# Altium integrated library TI_Logic_Specialty_Logic.IntLib: 2504 symbols (part 72 of 81)
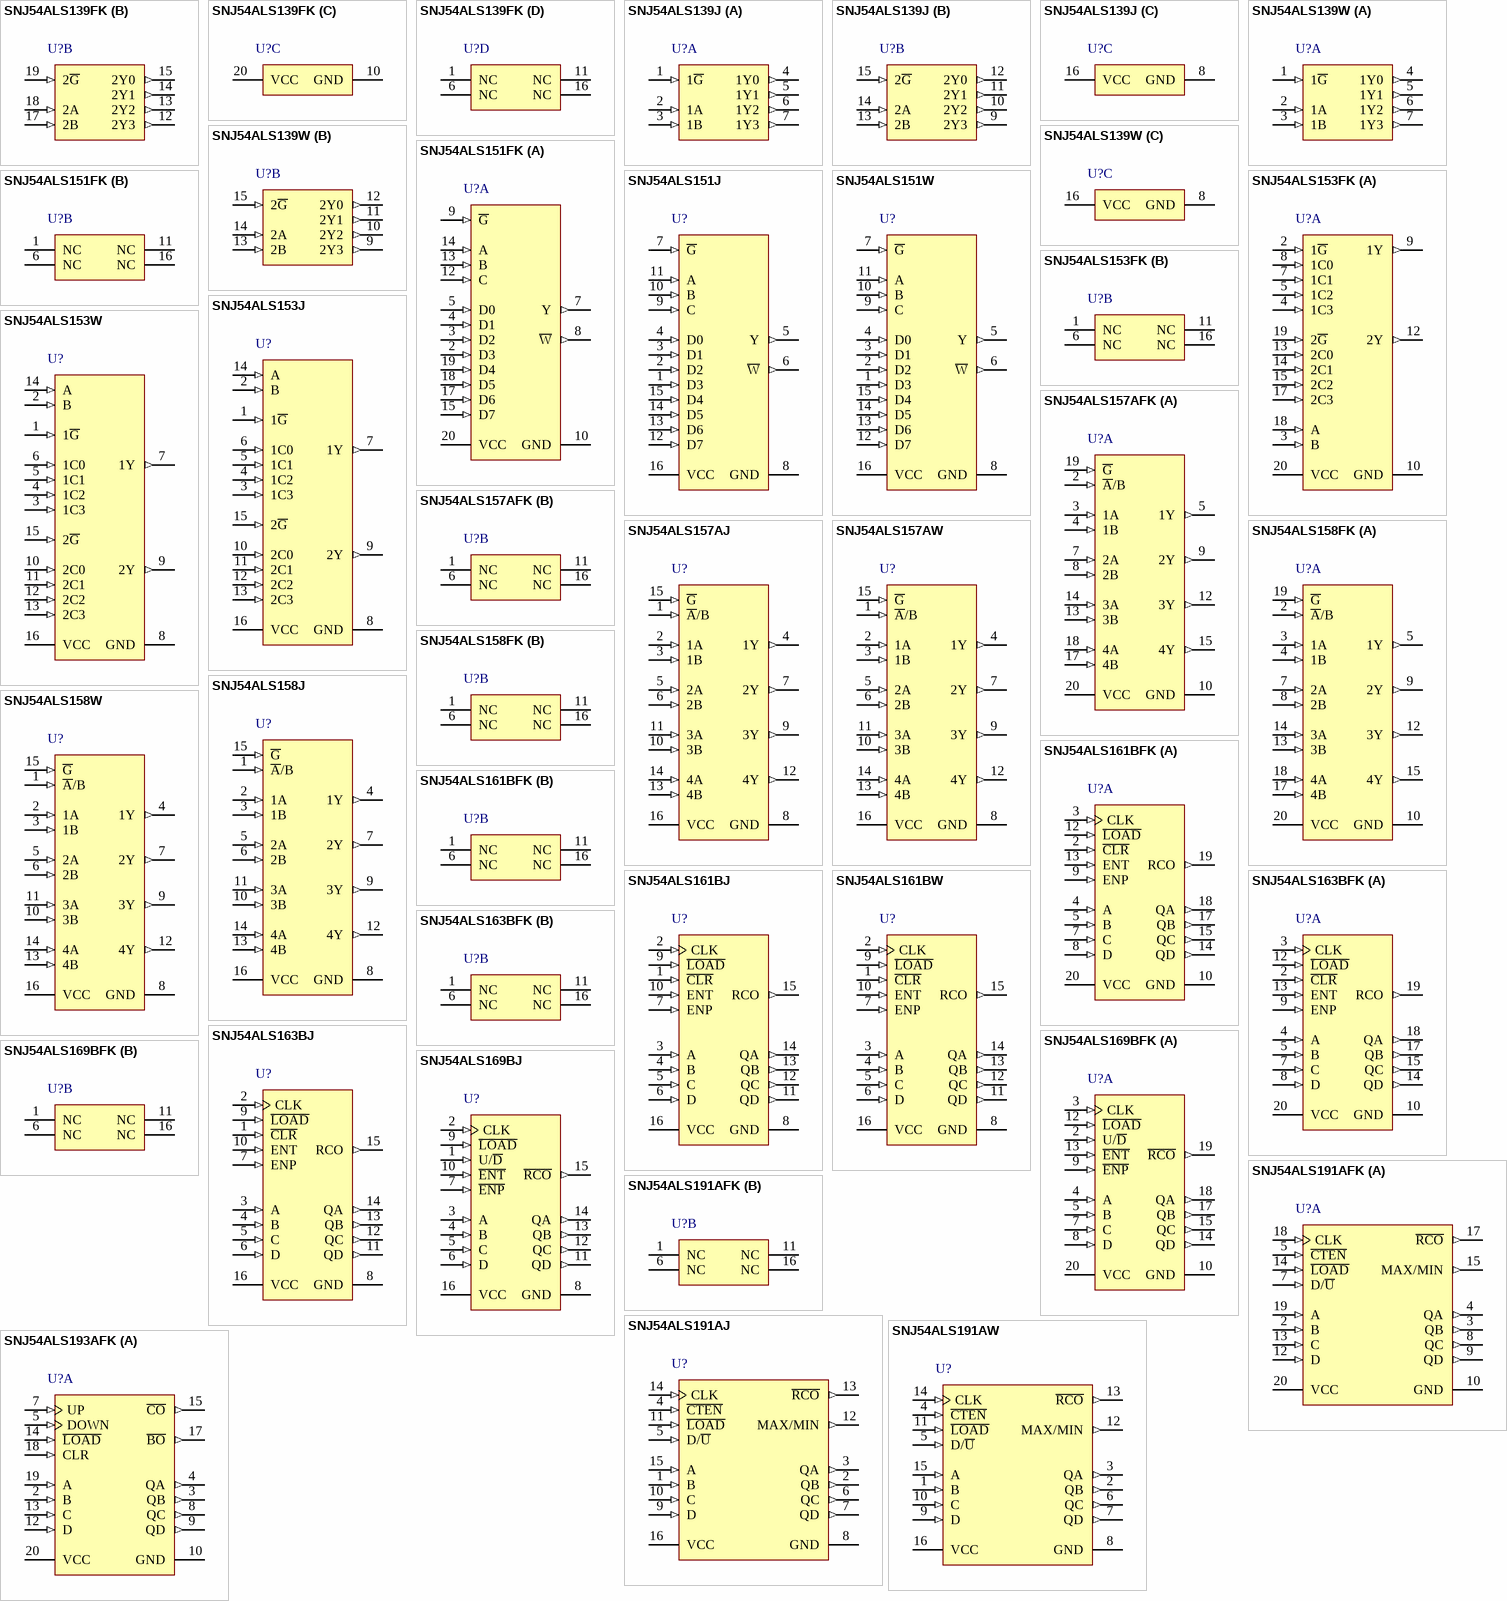
[diagram p175: symbols SNJ54ALS139FK to SNJ54ALS193AFK]

## SNJ54ALS157AJ
designator U?
Quadruple 1-Of-2 Data Selectors/Multiplexers, J0016A, TUBE; Generic Part Number: SN54ALS157A; Manufacturer: Texas Instruments; PartNumber: SNJ54ALS157AJ; VCC(Min)(V): 4.5; VCC(Max)(V): 5.5; Rating: Military; Technology Family: ALS; Schmitt Trigger: No; DatasheetVersion: SDAS081C; PackageReference: J0016A; Operating Temperature Range(C): -55 to 125; ComponentLink1Description: Manufacturer URL; ComponentLink1URL: http://www.ti.com/; ComponentLink2Description: Datasheet; ComponentLink2URL: http://www.ti.com/lit/ds/symlink/sn54als157a.pdf; ComponentLink3Description: Package Specification; ComponentLink3URL: http://www.ti.com/lit/ml/mcer002d/mcer002d.pdf
footprint J0016A (DIP, 16-Leads, Body 21.35x7.2mm, Pitch 2.54mm)
pins: 1 ~{A}/B (in), 2 1A (in), 3 1B (in), 4 1Y (out), 5 2A (in), 6 2B (in), 7 2Y (out), 8 GND (power), 9 3Y (out), 10 3B (in), 11 3A (in), 12 4Y (out), 13 4B (in), 14 4A (in), 15 ~{G} (in), 16 VCC (power)

## SNJ54ALS157AW
designator U?
Quadruple 1-Of-2 Data Selectors/Multiplexers, W0016A, TUBE; Generic Part Number: SN54ALS157A; Manufacturer: Texas Instruments; PartNumber: SNJ54ALS157AW; VCC(Min)(V): 4.5; VCC(Max)(V): 5.5; Rating: Military; Technology Family: ALS; Schmitt Trigger: No; DatasheetVersion: SDAS081C; PackageReference: W0016A; Operating Temperature Range(C): -55 to 125; ComponentLink1Description: Manufacturer URL; ComponentLink1URL: http://www.ti.com/; ComponentLink2Description: Datasheet; ComponentLink2URL: http://www.ti.com/lit/ds/symlink/sn54als157a.pdf; ComponentLink3Description: Package Specification; ComponentLink3URL: http://www.ti.com/lit/ml/mcfp004c/mcfp004c.pdf
footprint W0016A_N (CFP, 16-Leads, Body 10.92x7.24mm, Pitch 1.27mm, IPC Medium Density)
footprint W0016A_M (CFP, 16-Leads, Body 10.92x7.24mm, Pitch 1.27mm, IPC Low Density)
footprint W0016A_L (CFP, 16-Leads, Body 10.92x7.24mm, Pitch 1.27mm, IPC High Density)
pins: 1 ~{A}/B (in), 2 1A (in), 3 1B (in), 4 1Y (out), 5 2A (in), 6 2B (in), 7 2Y (out), 8 GND (power), 9 3Y (out), 10 3B (in), 11 3A (in), 12 4Y (out), 13 4B (in), 14 4A (in), 15 ~{G} (in), 16 VCC (power)

## SNJ54ALS158FK
designator U?
Quadruple 1-Of-2 Data Selectors/Multiplexers, FK0020A, TUBE; Generic Part Number: SN54ALS158; Manufacturer: Texas Instruments; PartNumber: SNJ54ALS158FK; VCC(Min)(V): 4.5; VCC(Max)(V): 5.5; Rating: Military; Technology Family: ALS; Schmitt Trigger: No; DatasheetVersion: SDAS081C; PackageReference: FK0020A; Operating Temperature Range(C): -55 to 125; Code_JEDEC: MS-004; ComponentLink1Description: Manufacturer URL; ComponentLink1URL: http://www.ti.com/; ComponentLink2Description: Datasheet; ComponentLink2URL: http://www.ti.com/lit/ds/symlink/sn54als158.pdf; ComponentLink3Description: Package Specification; ComponentLink3URL: http://www.ti.com/lit/ml/mlcc006d/mlcc006d.pdf
footprint FK0020A_N (LCC, 20-Leads, Body 8.9x8.9mm, Pitch 1.27mm, IPC Medium Density)
footprint FK0020A_M (LCC, 20-Leads, Body 8.9x8.9mm, Pitch 1.27mm, IPC Low Density)
footprint FK0020A_L (LCC, 20-Leads, Body 8.9x8.9mm, Pitch 1.27mm, IPC High Density)
part A pins: 2 ~{A}/B (in), 3 1A (in), 4 1B (in), 5 1Y (out), 7 2A (in), 8 2B (in), 9 2Y (out), 10 GND (power), 12 3Y (out), 13 3B (in), 14 3A (in), 15 4Y (out), 17 4B (in), 18 4A (in), 19 ~{G} (in), 20 VCC (power)
part B pins: 1 NC, 6 NC, 11 NC, 16 NC

## SNJ54ALS158J
designator U?
Quadruple 1-Of-2 Data Selectors/Multiplexers, J0016A, TUBE; Generic Part Number: SN54ALS158; Manufacturer: Texas Instruments; PartNumber: SNJ54ALS158J; VCC(Min)(V): 4.5; VCC(Max)(V): 5.5; Rating: Military; Technology Family: ALS; Schmitt Trigger: No; DatasheetVersion: SDAS081C; PackageReference: J0016A; Operating Temperature Range(C): -55 to 125; ComponentLink1Description: Manufacturer URL; ComponentLink1URL: http://www.ti.com/; ComponentLink2Description: Datasheet; ComponentLink2URL: http://www.ti.com/lit/ds/symlink/sn54als158.pdf; ComponentLink3Description: Package Specification; ComponentLink3URL: http://www.ti.com/lit/ml/mcer002d/mcer002d.pdf
footprint J0016A (DIP, 16-Leads, Body 21.35x7.2mm, Pitch 2.54mm)
pins: 1 ~{A}/B (in), 2 1A (in), 3 1B (in), 4 1Y (out), 5 2A (in), 6 2B (in), 7 2Y (out), 8 GND (power), 9 3Y (out), 10 3B (in), 11 3A (in), 12 4Y (out), 13 4B (in), 14 4A (in), 15 ~{G} (in), 16 VCC (power)

## SNJ54ALS158W
designator U?
Quadruple 1-Of-2 Data Selectors/Multiplexers, W0016A, TUBE; Generic Part Number: SN54ALS158; Manufacturer: Texas Instruments; PartNumber: SNJ54ALS158W; VCC(Min)(V): 4.5; VCC(Max)(V): 5.5; Rating: Military; Technology Family: ALS; Schmitt Trigger: No; DatasheetVersion: SDAS081C; PackageReference: W0016A; Operating Temperature Range(C): -55 to 125; ComponentLink1Description: Manufacturer URL; ComponentLink1URL: http://www.ti.com/; ComponentLink2Description: Datasheet; ComponentLink2URL: http://www.ti.com/lit/ds/symlink/sn54als158.pdf; ComponentLink3Description: Package Specification; ComponentLink3URL: http://www.ti.com/lit/ml/mcfp004c/mcfp004c.pdf
footprint W0016A_N (CFP, 16-Leads, Body 10.92x7.24mm, Pitch 1.27mm, IPC Medium Density)
footprint W0016A_M (CFP, 16-Leads, Body 10.92x7.24mm, Pitch 1.27mm, IPC Low Density)
footprint W0016A_L (CFP, 16-Leads, Body 10.92x7.24mm, Pitch 1.27mm, IPC High Density)
pins: 1 ~{A}/B (in), 2 1A (in), 3 1B (in), 4 1Y (out), 5 2A (in), 6 2B (in), 7 2Y (out), 8 GND (power), 9 3Y (out), 10 3B (in), 11 3A (in), 12 4Y (out), 13 4B (in), 14 4A (in), 15 ~{G} (in), 16 VCC (power)

## SNJ54ALS161BFK
designator U?
Synchronous 4-Bit Binary Counters, FK0020A, TUBE; Generic Part Number: SN54ALS161B; Manufacturer: Texas Instruments; PartNumber: SNJ54ALS161BFK; VCC(Min)(V): 4.5; VCC(Max)(V): 5.5; Inputs: 1; ICC @ Nom Voltage(Max)(mA): 21; Bits(#): 4; F @ Nom Voltage(Max)(Mhz): 75; Rating: Military; Technology Family: ALS; Output Drive (IOL/IOH)(Max)(mA): 8/-0.4; tpd @ Nom Voltage(Max)(ns): 20; DatasheetVersion: SDAS276A; PackageReference: FK0020A; Function: Counter; Operating Temperature Range(C): -55 to 125; Type: Binary; Code_JEDEC: MS-004; ComponentLink1Description: Manufacturer URL; ComponentLink1URL: http://www.ti.com/; ComponentLink2Description: Datasheet; ComponentLink2URL: http://www.ti.com/lit/ds/symlink/sn54als161b.pdf; ComponentLink3Description: Package Specification; ComponentLink3URL: http://www.ti.com/lit/ml/mlcc006d/mlcc006d.pdf
footprint FK0020A_N (LCC, 20-Leads, Body 8.9x8.9mm, Pitch 1.27mm, IPC Medium Density)
footprint FK0020A_M (LCC, 20-Leads, Body 8.9x8.9mm, Pitch 1.27mm, IPC Low Density)
footprint FK0020A_L (LCC, 20-Leads, Body 8.9x8.9mm, Pitch 1.27mm, IPC High Density)
part A pins: 2 ~{CLR} (in), 3 CLK (in), 4 A (in), 5 B (in), 7 C (in), 8 D (in), 9 ENP (in), 10 GND (power), 12 ~{LOAD} (in), 13 ENT (in), 14 QD (out), 15 QC (out), 17 QB (out), 18 QA (out), 19 RCO (out), 20 VCC (power)
part B pins: 1 NC, 6 NC, 11 NC, 16 NC

## SNJ54ALS161BJ
designator U?
Synchronous 4-Bit Binary Counters, J0016A, TUBE; Generic Part Number: SN54ALS161B; Manufacturer: Texas Instruments; PartNumber: SNJ54ALS161BJ; VCC(Min)(V): 4.5; VCC(Max)(V): 5.5; Inputs: 1; ICC @ Nom Voltage(Max)(mA): 21; Bits(#): 4; F @ Nom Voltage(Max)(Mhz): 75; Rating: Military; Technology Family: ALS; Output Drive (IOL/IOH)(Max)(mA): 8/-0.4; tpd @ Nom Voltage(Max)(ns): 20; DatasheetVersion: SDAS276A; PackageReference: J0016A; Function: Counter; Operating Temperature Range(C): -55 to 125; Type: Binary; ComponentLink1Description: Manufacturer URL; ComponentLink1URL: http://www.ti.com/; ComponentLink2Description: Datasheet; ComponentLink2URL: http://www.ti.com/lit/ds/symlink/sn54als161b.pdf; ComponentLink3Description: Package Specification; ComponentLink3URL: http://www.ti.com/lit/ml/mcer002d/mcer002d.pdf
footprint J0016A (DIP, 16-Leads, Body 21.35x7.2mm, Pitch 2.54mm)
pins: 1 ~{CLR} (in), 2 CLK (in), 3 A (in), 4 B (in), 5 C (in), 6 D (in), 7 ENP (in), 8 GND (power), 9 ~{LOAD} (in), 10 ENT (in), 11 QD (out), 12 QC (out), 13 QB (out), 14 QA (out), 15 RCO (out), 16 VCC (power)

## SNJ54ALS161BW
designator U?
Synchronous 4-Bit Binary Counters, W0016A, TUBE; Generic Part Number: SN54ALS161B; Manufacturer: Texas Instruments; PartNumber: SNJ54ALS161BW; VCC(Min)(V): 4.5; VCC(Max)(V): 5.5; Inputs: 1; ICC @ Nom Voltage(Max)(mA): 21; Bits(#): 4; F @ Nom Voltage(Max)(Mhz): 75; Rating: Military; Technology Family: ALS; Output Drive (IOL/IOH)(Max)(mA): 8/-0.4; tpd @ Nom Voltage(Max)(ns): 20; DatasheetVersion: SDAS276A; PackageReference: W0016A; Function: Counter; Operating Temperature Range(C): -55 to 125; Type: Binary; ComponentLink1Description: Manufacturer URL; ComponentLink1URL: http://www.ti.com/; ComponentLink2Description: Datasheet; ComponentLink2URL: http://www.ti.com/lit/ds/symlink/sn54als161b.pdf; ComponentLink3Description: Package Specification; ComponentLink3URL: http://www.ti.com/lit/ml/mcfp004c/mcfp004c.pdf
footprint W0016A_N (CFP, 16-Leads, Body 10.92x7.24mm, Pitch 1.27mm, IPC Medium Density)
footprint W0016A_M (CFP, 16-Leads, Body 10.92x7.24mm, Pitch 1.27mm, IPC Low Density)
footprint W0016A_L (CFP, 16-Leads, Body 10.92x7.24mm, Pitch 1.27mm, IPC High Density)
pins: 1 ~{CLR} (in), 2 CLK (in), 3 A (in), 4 B (in), 5 C (in), 6 D (in), 7 ENP (in), 8 GND (power), 9 ~{LOAD} (in), 10 ENT (in), 11 QD (out), 12 QC (out), 13 QB (out), 14 QA (out), 15 RCO (out), 16 VCC (power)

## SNJ54ALS163BFK
designator U?
Synchronous 4-Bit Binary Counters, FK0020A, TUBE; Generic Part Number: SN54ALS163B; Manufacturer: Texas Instruments; PartNumber: SNJ54ALS163BFK; VCC(Min)(V): 4.5; VCC(Max)(V): 5.5; Inputs: 1; ICC @ Nom Voltage(Max)(mA): 21; Bits(#): 4; F @ Nom Voltage(Max)(Mhz): 75; Rating: Military; Technology Family: ALS; Output Drive (IOL/IOH)(Max)(mA): 8/-0.4; tpd @ Nom Voltage(Max)(ns): 20; DatasheetVersion: SDAS276A; PackageReference: FK0020A; Function: Counter; Operating Temperature Range(C): -55 to 125; Type: Binary; Code_JEDEC: MS-004; ComponentLink1Description: Manufacturer URL; ComponentLink1URL: http://www.ti.com/; ComponentLink2Description: Datasheet; ComponentLink2URL: http://www.ti.com/lit/ds/symlink/sn54als163b.pdf; ComponentLink3Description: Package Specification; ComponentLink3URL: http://www.ti.com/lit/ml/mlcc006d/mlcc006d.pdf
footprint FK0020A_N (LCC, 20-Leads, Body 8.9x8.9mm, Pitch 1.27mm, IPC Medium Density)
footprint FK0020A_M (LCC, 20-Leads, Body 8.9x8.9mm, Pitch 1.27mm, IPC Low Density)
footprint FK0020A_L (LCC, 20-Leads, Body 8.9x8.9mm, Pitch 1.27mm, IPC High Density)
part A pins: 2 ~{CLR} (in), 3 CLK (in), 4 A (in), 5 B (in), 7 C (in), 8 D (in), 9 ENP (in), 10 GND (power), 12 ~{LOAD} (in), 13 ENT (in), 14 QD (out), 15 QC (out), 17 QB (out), 18 QA (out), 19 RCO (out), 20 VCC (power)
part B pins: 1 NC, 6 NC, 11 NC, 16 NC

## SNJ54ALS163BJ
designator U?
Synchronous 4-Bit Binary Counters, J0016A, TUBE; Generic Part Number: SN54ALS163B; Manufacturer: Texas Instruments; PartNumber: SNJ54ALS163BJ; VCC(Min)(V): 4.5; VCC(Max)(V): 5.5; Inputs: 1; ICC @ Nom Voltage(Max)(mA): 21; Bits(#): 4; F @ Nom Voltage(Max)(Mhz): 75; Rating: Military; Technology Family: ALS; Output Drive (IOL/IOH)(Max)(mA): 8/-0.4; tpd @ Nom Voltage(Max)(ns): 20; DatasheetVersion: SDAS276A; PackageReference: J0016A; Function: Counter; Operating Temperature Range(C): -55 to 125; Type: Binary; ComponentLink1Description: Manufacturer URL; ComponentLink1URL: http://www.ti.com/; ComponentLink2Description: Datasheet; ComponentLink2URL: http://www.ti.com/lit/ds/symlink/sn54als163b.pdf; ComponentLink3Description: Package Specification; ComponentLink3URL: http://www.ti.com/lit/ml/mcer002d/mcer002d.pdf
footprint J0016A (DIP, 16-Leads, Body 21.35x7.2mm, Pitch 2.54mm)
pins: 1 ~{CLR} (in), 2 CLK (in), 3 A (in), 4 B (in), 5 C (in), 6 D (in), 7 ENP (in), 8 GND (power), 9 ~{LOAD} (in), 10 ENT (in), 11 QD (out), 12 QC (out), 13 QB (out), 14 QA (out), 15 RCO (out), 16 VCC (power)

## SNJ54ALS169BFK
designator U?
Synchronous 4-Bit Up/Down Binary Counters, FK0020A, TUBE; Generic Part Number: SN54ALS169B; Manufacturer: Texas Instruments; PartNumber: SNJ54ALS169BFK; VCC(Min)(V): 4.5; VCC(Max)(V): 5.5; Inputs: 1; ICC @ Nom Voltage(Max)(mA): 25; Bits(#): 4; F @ Nom Voltage(Max)(Mhz): 75; Rating: Military; Technology Family: ALS; Output Drive (IOL/IOH)(Max)(mA): 8/-0.4; tpd @ Nom Voltage(Max)(ns): 20; DatasheetVersion: SDAS125B; PackageReference: FK0020A; Function: Counter; Operating Temperature Range(C): -55 to 125; Type: Binary; Code_JEDEC: MS-004; ComponentLink1Description: Manufacturer URL; ComponentLink1URL: http://www.ti.com/; ComponentLink2Description: Datasheet; ComponentLink2URL: http://www.ti.com/lit/ds/symlink/sn54als169b.pdf; ComponentLink3Description: Package Specification; ComponentLink3URL: http://www.ti.com/lit/ml/mlcc006d/mlcc006d.pdf
footprint FK0020A_N (LCC, 20-Leads, Body 8.9x8.9mm, Pitch 1.27mm, IPC Medium Density)
footprint FK0020A_M (LCC, 20-Leads, Body 8.9x8.9mm, Pitch 1.27mm, IPC Low Density)
footprint FK0020A_L (LCC, 20-Leads, Body 8.9x8.9mm, Pitch 1.27mm, IPC High Density)
part A pins: 2 U/~{D} (in), 3 CLK (in), 4 A (in), 5 B (in), 7 C (in), 8 D (in), 9 ~{ENP} (in), 10 GND (power), 12 ~{LOAD} (in), 13 ~{ENT} (in), 14 QD (out), 15 QC (out), 17 QB (out), 18 QA (out), 19 ~{RCO} (out), 20 VCC (power)
part B pins: 1 NC, 6 NC, 11 NC, 16 NC

## SNJ54ALS169BJ
designator U?
Synchronous 4-Bit Up/Down Binary Counters, J0016A, TUBE; Generic Part Number: SN54ALS169B; Manufacturer: Texas Instruments; PartNumber: SNJ54ALS169BJ; VCC(Min)(V): 4.5; VCC(Max)(V): 5.5; Inputs: 1; ICC @ Nom Voltage(Max)(mA): 25; Bits(#): 4; F @ Nom Voltage(Max)(Mhz): 75; Rating: Military; Technology Family: ALS; Output Drive (IOL/IOH)(Max)(mA): 8/-0.4; tpd @ Nom Voltage(Max)(ns): 20; DatasheetVersion: SDAS125B; PackageReference: J0016A; Function: Counter; Operating Temperature Range(C): -55 to 125; Type: Binary; ComponentLink1Description: Manufacturer URL; ComponentLink1URL: http://www.ti.com/; ComponentLink2Description: Datasheet; ComponentLink2URL: http://www.ti.com/lit/ds/symlink/sn54als169b.pdf; ComponentLink3Description: Package Specification; ComponentLink3URL: http://www.ti.com/lit/ml/mcer002d/mcer002d.pdf
footprint J0016A (DIP, 16-Leads, Body 21.35x7.2mm, Pitch 2.54mm)
pins: 1 U/~{D} (in), 2 CLK (in), 3 A (in), 4 B (in), 5 C (in), 6 D (in), 7 ~{ENP} (in), 8 GND (power), 9 ~{LOAD} (in), 10 ~{ENT} (in), 11 QD (out), 12 QC (out), 13 QB (out), 14 QA (out), 15 ~{RCO} (out), 16 VCC (power)

## SNJ54ALS191AFK
designator U?
Synchronous 4-Bit Up/Down Binary Counter, FK0020A, TUBE; Generic Part Number: SN54ALS191A; Manufacturer: Texas Instruments; PartNumber: SNJ54ALS191AFK; VCC(Min)(V): 4.5; VCC(Max)(V): 5.5; Inputs: 1; ICC @ Nom Voltage(Max)(mA): 22; Bits(#): 4; F @ Nom Voltage(Max)(Mhz): 75; Rating: Military; Technology Family: ALS; Output Drive (IOL/IOH)(Max)(mA): 8/-0.4; tpd @ Nom Voltage(Max)(ns): 31; DatasheetVersion: SDAS210C; PackageReference: FK0020A; Function: Counter; Operating Temperature Range(C): -55 to 125; Type: Binary; Code_JEDEC: MS-004; ComponentLink1Description: Manufacturer URL; ComponentLink1URL: http://www.ti.com/; ComponentLink2Description: Datasheet; ComponentLink2URL: http://www.ti.com/lit/ds/symlink/sn54als191a.pdf; ComponentLink3Description: Package Specification; ComponentLink3URL: http://www.ti.com/lit/ml/mlcc006d/mlcc006d.pdf
footprint FK0020A_N (LCC, 20-Leads, Body 8.9x8.9mm, Pitch 1.27mm, IPC Medium Density)
footprint FK0020A_M (LCC, 20-Leads, Body 8.9x8.9mm, Pitch 1.27mm, IPC Low Density)
footprint FK0020A_L (LCC, 20-Leads, Body 8.9x8.9mm, Pitch 1.27mm, IPC High Density)
part A pins: 2 B (in), 3 QB (out), 4 QA (out), 5 ~{CTEN} (in), 7 D/~{U} (in), 8 QC (out), 9 QD (out), 10 GND (power), 12 D (in), 13 C (in), 14 ~{LOAD} (in), 15 MAX/MIN (out), 17 ~{RCO} (out), 18 CLK (in), 19 A (in), 20 VCC (power)
part B pins: 1 NC, 6 NC, 11 NC, 16 NC

## SNJ54ALS191AJ
designator U?
Synchronous 4-Bit Up/Down Binary Counter, J0016A, TUBE; Generic Part Number: SN54ALS191A; Manufacturer: Texas Instruments; PartNumber: SNJ54ALS191AJ; VCC(Min)(V): 4.5; VCC(Max)(V): 5.5; Inputs: 1; ICC @ Nom Voltage(Max)(mA): 22; Bits(#): 4; F @ Nom Voltage(Max)(Mhz): 75; Rating: Military; Technology Family: ALS; Output Drive (IOL/IOH)(Max)(mA): 8/-0.4; tpd @ Nom Voltage(Max)(ns): 31; DatasheetVersion: SDAS210C; PackageReference: J0016A; Function: Counter; Operating Temperature Range(C): -55 to 125; Type: Binary; ComponentLink1Description: Manufacturer URL; ComponentLink1URL: http://www.ti.com/; ComponentLink2Description: Datasheet; ComponentLink2URL: http://www.ti.com/lit/ds/symlink/sn54als191a.pdf; ComponentLink3Description: Package Specification; ComponentLink3URL: http://www.ti.com/lit/ml/mcer002d/mcer002d.pdf
footprint J0016A (DIP, 16-Leads, Body 21.35x7.2mm, Pitch 2.54mm)
pins: 1 B (in), 2 QB (out), 3 QA (out), 4 ~{CTEN} (in), 5 D/~{U} (in), 6 QC (out), 7 QD (out), 8 GND (power), 9 D (in), 10 C (in), 11 ~{LOAD} (in), 12 MAX/MIN (out), 13 ~{RCO} (out), 14 CLK (in), 15 A (in), 16 VCC (power)

## SNJ54ALS191AW
designator U?
Synchronous 4-Bit Up/Down Binary Counter, W0016A, TUBE; Generic Part Number: SN54ALS191A; Manufacturer: Texas Instruments; PartNumber: SNJ54ALS191AW; VCC(Min)(V): 4.5; VCC(Max)(V): 5.5; Inputs: 1; ICC @ Nom Voltage(Max)(mA): 22; Bits(#): 4; F @ Nom Voltage(Max)(Mhz): 75; Rating: Military; Technology Family: ALS; Output Drive (IOL/IOH)(Max)(mA): 8/-0.4; tpd @ Nom Voltage(Max)(ns): 31; DatasheetVersion: SDAS210C; PackageReference: W0016A; Function: Counter; Operating Temperature Range(C): -55 to 125; Type: Binary; ComponentLink1Description: Manufacturer URL; ComponentLink1URL: http://www.ti.com/; ComponentLink2Description: Datasheet; ComponentLink2URL: http://www.ti.com/lit/ds/symlink/sn54als191a.pdf; ComponentLink3Description: Package Specification; ComponentLink3URL: http://www.ti.com/lit/ml/mcfp004c/mcfp004c.pdf
footprint W0016A_N (CFP, 16-Leads, Body 10.92x7.24mm, Pitch 1.27mm, IPC Medium Density)
footprint W0016A_M (CFP, 16-Leads, Body 10.92x7.24mm, Pitch 1.27mm, IPC Low Density)
footprint W0016A_L (CFP, 16-Leads, Body 10.92x7.24mm, Pitch 1.27mm, IPC High Density)
pins: 1 B (in), 2 QB (out), 3 QA (out), 4 ~{CTEN} (in), 5 D/~{U} (in), 6 QC (out), 7 QD (out), 8 GND (power), 9 D (in), 10 C (in), 11 ~{LOAD} (in), 12 MAX/MIN (out), 13 ~{RCO} (out), 14 CLK (in), 15 A (in), 16 VCC (power)

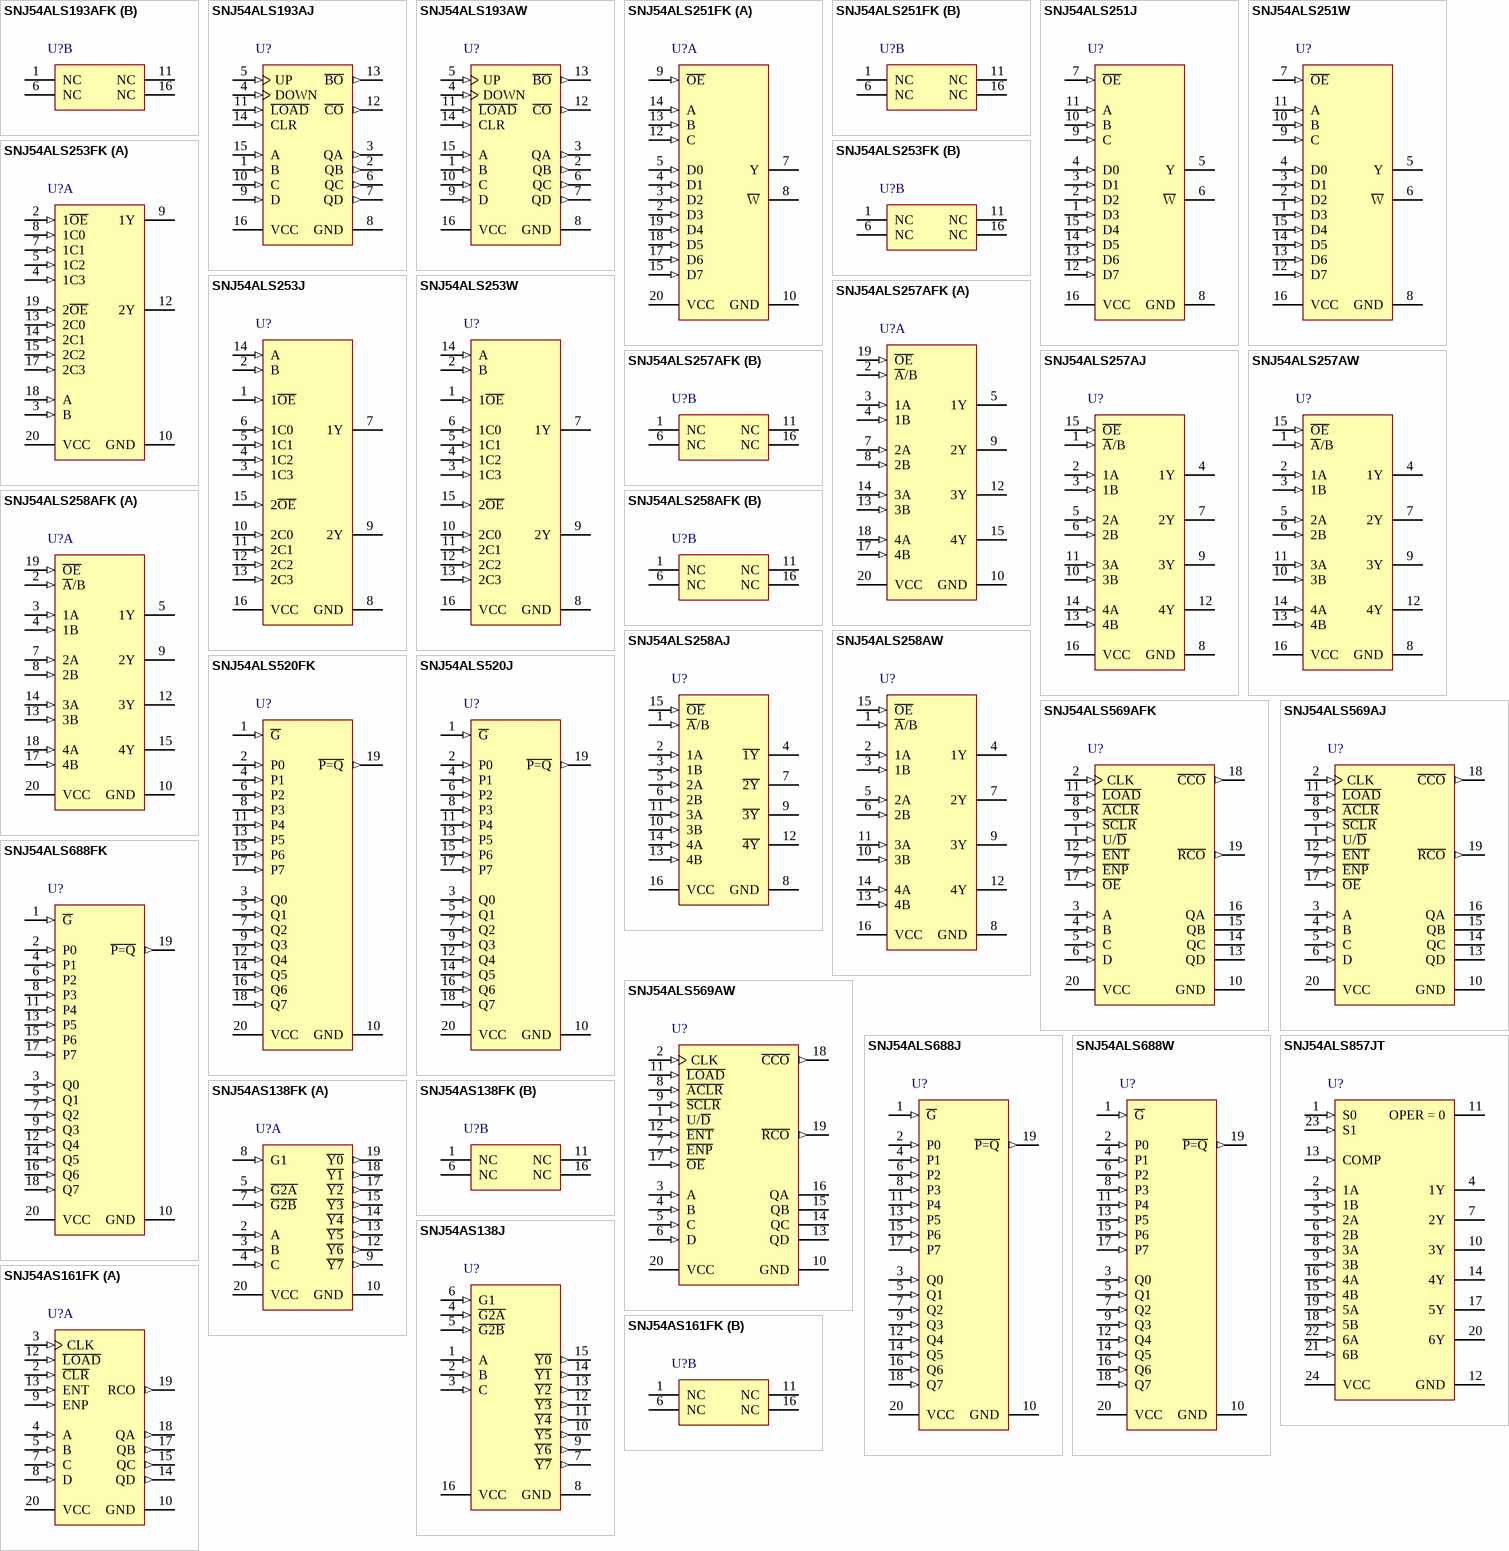
[diagram p89: symbols SNJ54ALS193AFK to SNJ54AS161FK]

## SNJ54ALS193AFK
designator U?
Synchronous 4-Bit Up/Down Binary Counters  With Dual Clock, FK0020A, TUBE; Generic Part Number: SN54ALS193A; Manufacturer: Texas Instruments; PartNumber: SNJ54ALS193AFK; VCC(Min)(V): 4.5; VCC(Max)(V): 5.5; Inputs: 1; ICC @ Nom Voltage(Max)(mA): 22; Bits(#): 4; F @ Nom Voltage(Max)(Mhz): 75; Rating: Military; Technology Family: ALS; Output Drive (IOL/IOH)(Max)(mA): 8/-0.4; tpd @ Nom Voltage(Max)(ns): 30; DatasheetVersion: SDAS211C; PackageReference: FK0020A; Function: Counter; Operating Temperature Range(C): -55 to 125; Type: Binary; Code_JEDEC: MS-004; ComponentLink1Description: Manufacturer URL; ComponentLink1URL: http://www.ti.com/; ComponentLink2Description: Datasheet; ComponentLink2URL: http://www.ti.com/lit/ds/symlink/sn54als193a.pdf; ComponentLink3Description: Package Specification; ComponentLink3URL: http://www.ti.com/lit/ml/mlcc006d/mlcc006d.pdf
footprint FK0020A_N (LCC, 20-Leads, Body 8.9x8.9mm, Pitch 1.27mm, IPC Medium Density)
footprint FK0020A_M (LCC, 20-Leads, Body 8.9x8.9mm, Pitch 1.27mm, IPC Low Density)
footprint FK0020A_L (LCC, 20-Leads, Body 8.9x8.9mm, Pitch 1.27mm, IPC High Density)
part A pins: 2 B (in), 3 QB (out), 4 QA (out), 5 DOWN (in), 7 UP (in), 8 QC (out), 9 QD (out), 10 GND (power), 12 D (in), 13 C (in), 14 ~{LOAD} (in), 15 ~{CO} (out), 17 ~{BO} (out), 18 CLR (in), 19 A (in), 20 VCC (power)
part B pins: 1 NC, 6 NC, 11 NC, 16 NC

## SNJ54ALS193AJ
designator U?
Synchronous 4-Bit Up/Down Binary Counters  With Dual Clock, J0016A, TUBE; Generic Part Number: SN54ALS193A; Manufacturer: Texas Instruments; PartNumber: SNJ54ALS193AJ; VCC(Min)(V): 4.5; VCC(Max)(V): 5.5; Inputs: 1; ICC @ Nom Voltage(Max)(mA): 22; Bits(#): 4; F @ Nom Voltage(Max)(Mhz): 75; Rating: Military; Technology Family: ALS; Output Drive (IOL/IOH)(Max)(mA): 8/-0.4; tpd @ Nom Voltage(Max)(ns): 30; DatasheetVersion: SDAS211C; PackageReference: J0016A; Function: Counter; Operating Temperature Range(C): -55 to 125; Type: Binary; ComponentLink1Description: Manufacturer URL; ComponentLink1URL: http://www.ti.com/; ComponentLink2Description: Datasheet; ComponentLink2URL: http://www.ti.com/lit/ds/symlink/sn54als193a.pdf; ComponentLink3Description: Package Specification; ComponentLink3URL: http://www.ti.com/lit/ml/mcer002d/mcer002d.pdf
footprint J0016A (DIP, 16-Leads, Body 21.35x7.2mm, Pitch 2.54mm)
pins: 1 B (in), 2 QB (out), 3 QA (out), 4 DOWN (in), 5 UP (in), 6 QC (out), 7 QD (out), 8 GND (power), 9 D (in), 10 C (in), 11 ~{LOAD} (in), 12 ~{CO} (out), 13 ~{BO} (out), 14 CLR (in), 15 A (in), 16 VCC (power)

## SNJ54ALS193AW
designator U?
Synchronous 4-Bit Up/Down Binary Counters  With Dual Clock, W0016A, TUBE; Generic Part Number: SN54ALS193A; Manufacturer: Texas Instruments; PartNumber: SNJ54ALS193AW; VCC(Min)(V): 4.5; VCC(Max)(V): 5.5; Inputs: 1; ICC @ Nom Voltage(Max)(mA): 22; Bits(#): 4; F @ Nom Voltage(Max)(Mhz): 75; Rating: Military; Technology Family: ALS; Output Drive (IOL/IOH)(Max)(mA): 8/-0.4; tpd @ Nom Voltage(Max)(ns): 30; DatasheetVersion: SDAS211C; PackageReference: W0016A; Function: Counter; Operating Temperature Range(C): -55 to 125; Type: Binary; ComponentLink1Description: Manufacturer URL; ComponentLink1URL: http://www.ti.com/; ComponentLink2Description: Datasheet; ComponentLink2URL: http://www.ti.com/lit/ds/symlink/sn54als193a.pdf; ComponentLink3Description: Package Specification; ComponentLink3URL: http://www.ti.com/lit/ml/mcfp004c/mcfp004c.pdf
footprint W0016A_N (CFP, 16-Leads, Body 10.92x7.24mm, Pitch 1.27mm, IPC Medium Density)
footprint W0016A_M (CFP, 16-Leads, Body 10.92x7.24mm, Pitch 1.27mm, IPC Low Density)
footprint W0016A_L (CFP, 16-Leads, Body 10.92x7.24mm, Pitch 1.27mm, IPC High Density)
pins: 1 B (in), 2 QB (out), 3 QA (out), 4 DOWN (in), 5 UP (in), 6 QC (out), 7 QD (out), 8 GND (power), 9 D (in), 10 C (in), 11 ~{LOAD} (in), 12 ~{CO} (out), 13 ~{BO} (out), 14 CLR (in), 15 A (in), 16 VCC (power)

## SNJ54ALS251FK
designator U?
1-Of-8 Data Selectors/Multiplexers With 3-State Outputs, FK0020A, TUBE; Generic Part Number: SN54ALS251; Manufacturer: Texas Instruments; PartNumber: SNJ54ALS251FK; VCC(Min)(V): 4.5; VCC(Max)(V): 5.5; Rating: Military; Technology Family: ALS; Schmitt Trigger: No; DatasheetVersion: SDAS215A; PackageReference: FK0020A; Operating Temperature Range(C): -55 to 125; Code_JEDEC: MS-004; ComponentLink1Description: Manufacturer URL; ComponentLink1URL: http://www.ti.com/; ComponentLink2Description: Datasheet; ComponentLink2URL: http://www.ti.com/lit/ds/symlink/sn54als251.pdf; ComponentLink3Description: Package Specification; ComponentLink3URL: http://www.ti.com/lit/ml/mlcc006d/mlcc006d.pdf
footprint FK0020A_N (LCC, 20-Leads, Body 8.9x8.9mm, Pitch 1.27mm, IPC Medium Density)
footprint FK0020A_M (LCC, 20-Leads, Body 8.9x8.9mm, Pitch 1.27mm, IPC Low Density)
footprint FK0020A_L (LCC, 20-Leads, Body 8.9x8.9mm, Pitch 1.27mm, IPC High Density)
part A pins: 2 D3 (in), 3 D2 (in), 4 D1 (in), 5 D0 (in), 7 Y (hiz), 8 ~{W} (hiz), 9 ~{OE} (in), 10 GND (power), 12 C (in), 13 B (in), 14 A (in), 15 D7 (in), 17 D6 (in), 18 D5 (in), 19 D4 (in), 20 VCC (power)
part B pins: 1 NC, 6 NC, 11 NC, 16 NC

## SNJ54ALS251J
designator U?
1-Of-8 Data Selectors/Multiplexers With 3-State Outputs, J0016A, TUBE; Generic Part Number: SN54ALS251; Manufacturer: Texas Instruments; PartNumber: SNJ54ALS251J; VCC(Min)(V): 4.5; VCC(Max)(V): 5.5; Rating: Military; Technology Family: ALS; Schmitt Trigger: No; DatasheetVersion: SDAS215A; PackageReference: J0016A; Operating Temperature Range(C): -55 to 125; ComponentLink1Description: Manufacturer URL; ComponentLink1URL: http://www.ti.com/; ComponentLink2Description: Datasheet; ComponentLink2URL: http://www.ti.com/lit/ds/symlink/sn54als251.pdf; ComponentLink3Description: Package Specification; ComponentLink3URL: http://www.ti.com/lit/ml/mcer002d/mcer002d.pdf
footprint J0016A (DIP, 16-Leads, Body 21.35x7.2mm, Pitch 2.54mm)
pins: 1 D3 (in), 2 D2 (in), 3 D1 (in), 4 D0 (in), 5 Y (hiz), 6 ~{W} (hiz), 7 ~{OE} (in), 8 GND (power), 9 C (in), 10 B (in), 11 A (in), 12 D7 (in), 13 D6 (in), 14 D5 (in), 15 D4 (in), 16 VCC (power)

## SNJ54ALS251W
designator U?
1-Of-8 Data Selectors/Multiplexers With 3-State Outputs, W0016A, TUBE; Generic Part Number: SN54ALS251; Manufacturer: Texas Instruments; PartNumber: SNJ54ALS251W; VCC(Min)(V): 4.5; VCC(Max)(V): 5.5; Rating: Military; Technology Family: ALS; Schmitt Trigger: No; DatasheetVersion: SDAS215A; PackageReference: W0016A; Operating Temperature Range(C): -55 to 125; ComponentLink1Description: Manufacturer URL; ComponentLink1URL: http://www.ti.com/; ComponentLink2Description: Datasheet; ComponentLink2URL: http://www.ti.com/lit/ds/symlink/sn54als251.pdf; ComponentLink3Description: Package Specification; ComponentLink3URL: http://www.ti.com/lit/ml/mcfp004c/mcfp004c.pdf
footprint W0016A_N (CFP, 16-Leads, Body 10.92x7.24mm, Pitch 1.27mm, IPC Medium Density)
footprint W0016A_M (CFP, 16-Leads, Body 10.92x7.24mm, Pitch 1.27mm, IPC Low Density)
footprint W0016A_L (CFP, 16-Leads, Body 10.92x7.24mm, Pitch 1.27mm, IPC High Density)
pins: 1 D3 (in), 2 D2 (in), 3 D1 (in), 4 D0 (in), 5 Y (hiz), 6 ~{W} (hiz), 7 ~{OE} (in), 8 GND (power), 9 C (in), 10 B (in), 11 A (in), 12 D7 (in), 13 D6 (in), 14 D5 (in), 15 D4 (in), 16 VCC (power)

## SNJ54ALS253FK
designator U?
Dual 1-Of-4 Data Selectors/Multiplexers With 3-State Outputs, FK0020A, TUBE; Generic Part Number: SN54ALS253; Manufacturer: Texas Instruments; PartNumber: SNJ54ALS253FK; VCC(Min)(V): 4.5; VCC(Max)(V): 5.5; Rating: Military; Technology Family: ALS; Schmitt Trigger: No; DatasheetVersion: SDAS216A; PackageReference: FK0020A; Operating Temperature Range(C): -55 to 125; Code_JEDEC: MS-004; ComponentLink1Description: Manufacturer URL; ComponentLink1URL: http://www.ti.com/; ComponentLink2Description: Datasheet; ComponentLink2URL: http://www.ti.com/lit/ds/symlink/sn54als253.pdf; ComponentLink3Description: Package Specification; ComponentLink3URL: http://www.ti.com/lit/ml/mlcc006d/mlcc006d.pdf
footprint FK0020A_N (LCC, 20-Leads, Body 8.9x8.9mm, Pitch 1.27mm, IPC Medium Density)
footprint FK0020A_M (LCC, 20-Leads, Body 8.9x8.9mm, Pitch 1.27mm, IPC Low Density)
footprint FK0020A_L (LCC, 20-Leads, Body 8.9x8.9mm, Pitch 1.27mm, IPC High Density)
part A pins: 2 1~{OE} (in), 3 B (in), 4 1C3 (in), 5 1C2 (in), 7 1C1 (in), 8 1C0 (in), 9 1Y (hiz), 10 GND (power), 12 2Y (hiz), 13 2C0 (in), 14 2C1 (in), 15 2C2 (in), 17 2C3 (in), 18 A (in), 19 2~{OE} (in), 20 VCC (power)
part B pins: 1 NC, 6 NC, 11 NC, 16 NC

## SNJ54ALS253J
designator U?
Dual 1-Of-4 Data Selectors/Multiplexers With 3-State Outputs, J0016A, TUBE; Generic Part Number: SN54ALS253; Manufacturer: Texas Instruments; PartNumber: SNJ54ALS253J; VCC(Min)(V): 4.5; VCC(Max)(V): 5.5; Rating: Military; Technology Family: ALS; Schmitt Trigger: No; DatasheetVersion: SDAS216A; PackageReference: J0016A; Operating Temperature Range(C): -55 to 125; ComponentLink1Description: Manufacturer URL; ComponentLink1URL: http://www.ti.com/; ComponentLink2Description: Datasheet; ComponentLink2URL: http://www.ti.com/lit/ds/symlink/sn54als253.pdf; ComponentLink3Description: Package Specification; ComponentLink3URL: http://www.ti.com/lit/ml/mcer002d/mcer002d.pdf
footprint J0016A (DIP, 16-Leads, Body 21.35x7.2mm, Pitch 2.54mm)
pins: 1 1~{OE} (in), 2 B (in), 3 1C3 (in), 4 1C2 (in), 5 1C1 (in), 6 1C0 (in), 7 1Y (hiz), 8 GND (power), 9 2Y (hiz), 10 2C0 (in), 11 2C1 (in), 12 2C2 (in), 13 2C3 (in), 14 A (in), 15 2~{OE} (in), 16 VCC (power)

## SNJ54ALS253W
designator U?
Dual 1-Of-4 Data Selectors/Multiplexers With 3-State Outputs, W0016A, TUBE; Generic Part Number: SN54ALS253; Manufacturer: Texas Instruments; PartNumber: SNJ54ALS253W; VCC(Min)(V): 4.5; VCC(Max)(V): 5.5; Rating: Military; Technology Family: ALS; Schmitt Trigger: No; DatasheetVersion: SDAS216A; PackageReference: W0016A; Operating Temperature Range(C): -55 to 125; ComponentLink1Description: Manufacturer URL; ComponentLink1URL: http://www.ti.com/; ComponentLink2Description: Datasheet; ComponentLink2URL: http://www.ti.com/lit/ds/symlink/sn54als253.pdf; ComponentLink3Description: Package Specification; ComponentLink3URL: http://www.ti.com/lit/ml/mcfp004c/mcfp004c.pdf
footprint W0016A_N (CFP, 16-Leads, Body 10.92x7.24mm, Pitch 1.27mm, IPC Medium Density)
footprint W0016A_M (CFP, 16-Leads, Body 10.92x7.24mm, Pitch 1.27mm, IPC Low Density)
footprint W0016A_L (CFP, 16-Leads, Body 10.92x7.24mm, Pitch 1.27mm, IPC High Density)
pins: 1 1~{OE} (in), 2 B (in), 3 1C3 (in), 4 1C2 (in), 5 1C1 (in), 6 1C0 (in), 7 1Y (hiz), 8 GND (power), 9 2Y (hiz), 10 2C0 (in), 11 2C1 (in), 12 2C2 (in), 13 2C3 (in), 14 A (in), 15 2~{OE} (in), 16 VCC (power)

## SNJ54ALS257AFK
designator U?
Quad 2-Line To 1-Line Data Selectors/Multiplexers With 3-State, FK0020A, TUBE; Generic Part Number: SN54ALS257A; Manufacturer: Texas Instruments; PartNumber: SNJ54ALS257AFK; VCC(Min)(V): 4.5; VCC(Max)(V): 5.5; Rating: Military; Technology Family: ALS; Schmitt Trigger: No; DatasheetVersion: SDAS124C; PackageReference: FK0020A; Operating Temperature Range(C): -55 to 125; Code_JEDEC: MS-004; ComponentLink1Description: Manufacturer URL; ComponentLink1URL: http://www.ti.com/; ComponentLink2Description: Datasheet; ComponentLink2URL: http://www.ti.com/lit/ds/symlink/sn54als257a.pdf; ComponentLink3Description: Package Specification; ComponentLink3URL: http://www.ti.com/lit/ml/mlcc006d/mlcc006d.pdf
footprint FK0020A_N (LCC, 20-Leads, Body 8.9x8.9mm, Pitch 1.27mm, IPC Medium Density)
footprint FK0020A_M (LCC, 20-Leads, Body 8.9x8.9mm, Pitch 1.27mm, IPC Low Density)
footprint FK0020A_L (LCC, 20-Leads, Body 8.9x8.9mm, Pitch 1.27mm, IPC High Density)
part A pins: 2 ~{A}/B (in), 3 1A (in), 4 1B (in), 5 1Y (hiz), 7 2A (in), 8 2B (in), 9 2Y (hiz), 10 GND (power), 12 3Y (hiz), 13 3B (in), 14 3A (in), 15 4Y (hiz), 17 4B (in), 18 4A (in), 19 ~{OE} (in), 20 VCC (power)
part B pins: 1 NC, 6 NC, 11 NC, 16 NC

## SNJ54ALS257AJ
designator U?
Quad 2-Line To 1-Line Data Selectors/Multiplexers With 3-State, J0016A, TUBE; Generic Part Number: SN54ALS257A; Manufacturer: Texas Instruments; PartNumber: SNJ54ALS257AJ; VCC(Min)(V): 4.5; VCC(Max)(V): 5.5; Rating: Military; Technology Family: ALS; Schmitt Trigger: No; DatasheetVersion: SDAS124C; PackageReference: J0016A; Operating Temperature Range(C): -55 to 125; ComponentLink1Description: Manufacturer URL; ComponentLink1URL: http://www.ti.com/; ComponentLink2Description: Datasheet; ComponentLink2URL: http://www.ti.com/lit/ds/symlink/sn54als257a.pdf; ComponentLink3Description: Package Specification; ComponentLink3URL: http://www.ti.com/lit/ml/mcer002d/mcer002d.pdf
footprint J0016A (DIP, 16-Leads, Body 21.35x7.2mm, Pitch 2.54mm)
pins: 1 ~{A}/B (in), 2 1A (in), 3 1B (in), 4 1Y (hiz), 5 2A (in), 6 2B (in), 7 2Y (hiz), 8 GND (power), 9 3Y (hiz), 10 3B (in), 11 3A (in), 12 4Y (hiz), 13 4B (in), 14 4A (in), 15 ~{OE} (in), 16 VCC (power)

## SNJ54ALS257AW
designator U?
Quad 2-Line To 1-Line Data Selectors/Multiplexers With 3-State, W0016A, TUBE; Generic Part Number: SN54ALS257A; Manufacturer: Texas Instruments; PartNumber: SNJ54ALS257AW; VCC(Min)(V): 4.5; VCC(Max)(V): 5.5; Rating: Military; Technology Family: ALS; Schmitt Trigger: No; DatasheetVersion: SDAS124C; PackageReference: W0016A; Operating Temperature Range(C): -55 to 125; ComponentLink1Description: Manufacturer URL; ComponentLink1URL: http://www.ti.com/; ComponentLink2Description: Datasheet; ComponentLink2URL: http://www.ti.com/lit/ds/symlink/sn54als257a.pdf; ComponentLink3Description: Package Specification; ComponentLink3URL: http://www.ti.com/lit/ml/mcfp004c/mcfp004c.pdf
footprint W0016A_N (CFP, 16-Leads, Body 10.92x7.24mm, Pitch 1.27mm, IPC Medium Density)
footprint W0016A_M (CFP, 16-Leads, Body 10.92x7.24mm, Pitch 1.27mm, IPC Low Density)
footprint W0016A_L (CFP, 16-Leads, Body 10.92x7.24mm, Pitch 1.27mm, IPC High Density)
pins: 1 ~{A}/B (in), 2 1A (in), 3 1B (in), 4 1Y (hiz), 5 2A (in), 6 2B (in), 7 2Y (hiz), 8 GND (power), 9 3Y (hiz), 10 3B (in), 11 3A (in), 12 4Y (hiz), 13 4B (in), 14 4A (in), 15 ~{OE} (in), 16 VCC (power)

## SNJ54ALS258AFK
designator U?
Quad 2-Line To 1-Line Data Selectors/Multiplexers With 3-State Outputs, FK0020A, TUBE; Generic Part Number: SN54ALS258A; Manufacturer: Texas Instruments; PartNumber: SNJ54ALS258AFK; VCC(Min)(V): 4.5; VCC(Max)(V): 5.5; Rating: Military; Technology Family: ALS; Schmitt Trigger: No; DatasheetVersion: SDAS124C; PackageReference: FK0020A; Operating Temperature Range(C): -55 to 125; Code_JEDEC: MS-004; ComponentLink1Description: Manufacturer URL; ComponentLink1URL: http://www.ti.com/; ComponentLink2Description: Datasheet; ComponentLink2URL: http://www.ti.com/lit/ds/symlink/sn54als258a.pdf; ComponentLink3Description: Package Specification; ComponentLink3URL: http://www.ti.com/lit/ml/mlcc006d/mlcc006d.pdf
footprint FK0020A_N (LCC, 20-Leads, Body 8.9x8.9mm, Pitch 1.27mm, IPC Medium Density)
footprint FK0020A_M (LCC, 20-Leads, Body 8.9x8.9mm, Pitch 1.27mm, IPC Low Density)
footprint FK0020A_L (LCC, 20-Leads, Body 8.9x8.9mm, Pitch 1.27mm, IPC High Density)
part A pins: 2 ~{A}/B (in), 3 1A (in), 4 1B (in), 5 1Y (hiz), 7 2A (in), 8 2B (in), 9 2Y (hiz), 10 GND (power), 12 3Y (hiz), 13 3B (in), 14 3A (in), 15 4Y (hiz), 17 4B (in), 18 4A (in), 19 ~{OE} (in), 20 VCC (power)
part B pins: 1 NC, 6 NC, 11 NC, 16 NC

## SNJ54ALS258AJ
designator U?
Quad 2-Line To 1-Line Data Selectors/Multiplexers With 3-State Outputs, J0016A, TUBE; Generic Part Number: SN54ALS258A; Manufacturer: Texas Instruments; PartNumber: SNJ54ALS258AJ; VCC(Min)(V): 4.5; VCC(Max)(V): 5.5; Rating: Military; Technology Family: ALS; Schmitt Trigger: No; DatasheetVersion: SDAS124C; PackageReference: J0016A; Operating Temperature Range(C): -55 to 125; ComponentLink1Description: Manufacturer URL; ComponentLink1URL: http://www.ti.com/; ComponentLink2Description: Datasheet; ComponentLink2URL: http://www.ti.com/lit/ds/symlink/sn54als258a.pdf; ComponentLink3Description: Package Specification; ComponentLink3URL: http://www.ti.com/lit/ml/mcer002d/mcer002d.pdf
footprint J0016A (DIP, 16-Leads, Body 21.35x7.2mm, Pitch 2.54mm)
pins: 1 ~{A}/B (in), 2 1A (in), 3 1B (in), 4 ~{1Y} (hiz), 5 2A (in), 6 2B (in), 7 ~{2Y} (hiz), 8 GND (power), 9 ~{3Y} (hiz), 10 3B (in), 11 3A (in), 12 ~{4Y} (hiz), 13 4B (in), 14 4A (in), 15 ~{OE} (in), 16 VCC (power)

## SNJ54ALS258AW
designator U?
Quad 2-Line To 1-Line Data Selectors/Multiplexers With 3-State Outputs, W0016A, TUBE; Generic Part Number: SN54ALS258A; Manufacturer: Texas Instruments; PartNumber: SNJ54ALS258AW; VCC(Min)(V): 4.5; VCC(Max)(V): 5.5; Rating: Military; Technology Family: ALS; Schmitt Trigger: No; DatasheetVersion: SDAS124C; PackageReference: W0016A; Operating Temperature Range(C): -55 to 125; ComponentLink1Description: Manufacturer URL; ComponentLink1URL: http://www.ti.com/; ComponentLink2Description: Datasheet; ComponentLink2URL: http://www.ti.com/lit/ds/symlink/sn54als258a.pdf; ComponentLink3Description: Package Specification; ComponentLink3URL: http://www.ti.com/lit/ml/mcfp004c/mcfp004c.pdf
footprint W0016A_N (CFP, 16-Leads, Body 10.92x7.24mm, Pitch 1.27mm, IPC Medium Density)
footprint W0016A_M (CFP, 16-Leads, Body 10.92x7.24mm, Pitch 1.27mm, IPC Low Density)
footprint W0016A_L (CFP, 16-Leads, Body 10.92x7.24mm, Pitch 1.27mm, IPC High Density)
pins: 1 ~{A}/B (in), 2 1A (in), 3 1B (in), 4 1Y (hiz), 5 2A (in), 6 2B (in), 7 2Y (hiz), 8 GND (power), 9 3Y (hiz), 10 3B (in), 11 3A (in), 12 4Y (hiz), 13 4B (in), 14 4A (in), 15 ~{OE} (in), 16 VCC (power)

## SNJ54ALS520FK
designator U?
8-Bit Identity/Magnitude Comparators (P=Q) with Enable and 20K Ohm Q-Input Pullup Resistors, FK0020A, TUBE; Generic Part Number: SN54ALS520; Manufacturer: Texas Instruments; PartNumber: SNJ54ALS520FK; VCC(Min)(V): 4.5; VCC(Max)(V): 5.5; Output Type: TTL; Bits(#): 8; Rating: Military; Technology Family: ALS; DatasheetVersion: SDAS224B; PackageReference: FK0020A; Input Type: TTL; Operating Temperature Range(C): -55 to 125; Code_JEDEC: MS-004; ComponentLink1Description: Manufacturer URL; ComponentLink1URL: http://www.ti.com/; ComponentLink2Description: Datasheet; ComponentLink2URL: http://www.ti.com/lit/ds/symlink/sn54als520.pdf; ComponentLink3Description: Package Specification; ComponentLink3URL: http://www.ti.com/lit/ml/mlcc006d/mlcc006d.pdf
footprint FK0020A_N (LCC, 20-Leads, Body 8.9x8.9mm, Pitch 1.27mm, IPC Medium Density)
footprint FK0020A_M (LCC, 20-Leads, Body 8.9x8.9mm, Pitch 1.27mm, IPC Low Density)
footprint FK0020A_L (LCC, 20-Leads, Body 8.9x8.9mm, Pitch 1.27mm, IPC High Density)
pins: 1 ~{G} (in), 2 P0 (in), 3 Q0 (in), 4 P1 (in), 5 Q1 (in), 6 P2 (in), 7 Q2 (in), 8 P3 (in), 9 Q3 (in), 10 GND (power), 11 P4 (in), 12 Q4 (in), 13 P5 (in), 14 Q5 (in), 15 P6 (in), 16 Q6 (in), 17 P7 (in), 18 Q7 (in), 19 ~{P=Q} (out), 20 VCC (power)

## SNJ54ALS520J
designator U?
8-Bit Identity/Magnitude Comparators (P=Q) with Enable and 20K Ohm Q-Input Pullup Resistors, J0020A, TUBE; Generic Part Number: SN54ALS520; Manufacturer: Texas Instruments; PartNumber: SNJ54ALS520J; VCC(Min)(V): 4.5; VCC(Max)(V): 5.5; Output Type: TTL; Bits(#): 8; Rating: Military; Technology Family: ALS; DatasheetVersion: SDAS224B; PackageReference: J0020A; Input Type: TTL; Operating Temperature Range(C): -55 to 125; ComponentLink1Description: Manufacturer URL; ComponentLink1URL: http://www.ti.com/; ComponentLink2Description: Datasheet; ComponentLink2URL: http://www.ti.com/lit/ds/symlink/sn54als520.pdf
footprint J0020A (DIP, 20-Leads, Body 26.9x7.2mm, Pitch 2.54mm)
pins: 1 ~{G} (in), 2 P0 (in), 3 Q0 (in), 4 P1 (in), 5 Q1 (in), 6 P2 (in), 7 Q2 (in), 8 P3 (in), 9 Q3 (in), 10 GND (power), 11 P4 (in), 12 Q4 (in), 13 P5 (in), 14 Q5 (in), 15 P6 (in), 16 Q6 (in), 17 P7 (in), 18 Q7 (in), 19 ~{P=Q} (out), 20 VCC (power)

## SNJ54ALS569AFK
designator U?
Synchronous 4-Bit Up/Down Binary Counters With 3-State Outputs, FK0020A, TUBE; Generic Part Number: SN54ALS569A; Manufacturer: Texas Instruments; PartNumber: SNJ54ALS569AFK; VCC(Min)(V): 4.5; VCC(Max)(V): 5.5; Inputs: 1; ICC @ Nom Voltage(Max)(mA): 32; Bits(#): 4; F @ Nom Voltage(Max)(Mhz): 75; Rating: Military; Technology Family: ALS; Output Drive (IOL/IOH)(Max)(mA): 24/-2.6; tpd @ Nom Voltage(Max)(ns): 28; DatasheetVersion: SDAS229A; PackageReference: FK0020A; Function: Counter; Operating Temperature Range(C): -55 to 125; Type: Binary; Code_JEDEC: MS-004; ComponentLink1Description: Manufacturer URL; ComponentLink1URL: http://www.ti.com/; ComponentLink2Description: Datasheet; ComponentLink2URL: http://www.ti.com/lit/ds/symlink/sn54als569a.pdf; ComponentLink3Description: Package Specification; ComponentLink3URL: http://www.ti.com/lit/ml/mlcc006d/mlcc006d.pdf
footprint FK0020A_N (LCC, 20-Leads, Body 8.9x8.9mm, Pitch 1.27mm, IPC Medium Density)
footprint FK0020A_M (LCC, 20-Leads, Body 8.9x8.9mm, Pitch 1.27mm, IPC Low Density)
footprint FK0020A_L (LCC, 20-Leads, Body 8.9x8.9mm, Pitch 1.27mm, IPC High Density)
pins: 1 U/~{D} (in), 2 CLK (in), 3 A (in), 4 B (in), 5 C (in), 6 D (in), 7 ~{ENP} (in), 8 ~{ACLR} (in), 9 ~{SCLR} (in), 10 GND (power), 11 ~{LOAD} (in), 12 ~{ENT} (in), 13 QD (hiz), 14 QC (hiz), 15 QB (hiz), 16 QA (hiz), 17 ~{OE} (in), 18 ~{CCO} (out), 19 ~{RCO} (out), 20 VCC (power)

## SNJ54ALS569AJ
designator U?
Synchronous 4-Bit Up/Down Binary Counters With 3-State Outputs, J0020A, TUBE; Generic Part Number: SN54ALS569A; Manufacturer: Texas Instruments; PartNumber: SNJ54ALS569AJ; VCC(Min)(V): 4.5; VCC(Max)(V): 5.5; Inputs: 1; ICC @ Nom Voltage(Max)(mA): 32; Bits(#): 4; F @ Nom Voltage(Max)(Mhz): 75; Rating: Military; Technology Family: ALS; Output Drive (IOL/IOH)(Max)(mA): 24/-2.6; tpd @ Nom Voltage(Max)(ns): 28; DatasheetVersion: SDAS229A; PackageReference: J0020A; Function: Counter; Operating Temperature Range(C): -55 to 125; Type: Binary; ComponentLink1Description: Manufacturer URL; ComponentLink1URL: http://www.ti.com/; ComponentLink2Description: Datasheet; ComponentLink2URL: http://www.ti.com/lit/ds/symlink/sn54als569a.pdf; ComponentLink3Description: Package Specification; ComponentLink3URL: http://www.ti.com/lit/ml/mcer002d/mcer002d.pdf
footprint J0020A (DIP, 20-Leads, Body 26.9x7.2mm, Pitch 2.54mm)
pins: 1 U/~{D} (in), 2 CLK (in), 3 A (in), 4 B (in), 5 C (in), 6 D (in), 7 ~{ENP} (in), 8 ~{ACLR} (in), 9 ~{SCLR} (in), 10 GND (power), 11 ~{LOAD} (in), 12 ~{ENT} (in), 13 QD (hiz), 14 QC (hiz), 15 QB (hiz), 16 QA (hiz), 17 ~{OE} (in), 18 ~{CCO} (out), 19 ~{RCO} (out), 20 VCC (power)

## SNJ54ALS569AW
designator U?
Synchronous 4-Bit Up/Down Binary Counters With 3-State Outputs, W0020A, TUBE; Generic Part Number: SN54ALS569A; Manufacturer: Texas Instruments; PartNumber: SNJ54ALS569AW; VCC(Min)(V): 4.5; VCC(Max)(V): 5.5; Inputs: 1; ICC @ Nom Voltage(Max)(mA): 32; Bits(#): 4; F @ Nom Voltage(Max)(Mhz): 75; Rating: Military; Technology Family: ALS; Output Drive (IOL/IOH)(Max)(mA): 24/-2.6; tpd @ Nom Voltage(Max)(ns): 28; DatasheetVersion: SDAS229A; PackageReference: W0020A; Function: Counter; Operating Temperature Range(C): -55 to 125; Type: Binary; ComponentLink1Description: Manufacturer URL; ComponentLink1URL: http://www.ti.com/; ComponentLink2Description: Datasheet; ComponentLink2URL: http://www.ti.com/lit/ds/symlink/sn54als569a.pdf; ComponentLink3Description: Package Specification; ComponentLink3URL: http://www.ti.com/lit/ml/mcfp006d/mcfp006d.pdf
footprint W0020A_N (CFP, 20-Leads, Body 13.72x7.62mm, Pitch 1.27mm, IPC Medium Density)
footprint W0020A_M (CFP, 20-Leads, Body 13.72x7.62mm, Pitch 1.27mm, IPC Low Density)
footprint W0020A_L (CFP, 20-Leads, Body 13.72x7.62mm, Pitch 1.27mm, IPC High Density)
pins: 1 U/~{D} (in), 2 CLK (in), 3 A (in), 4 B (in), 5 C (in), 6 D (in), 7 ~{ENP} (in), 8 ~{ACLR} (in), 9 ~{SCLR} (in), 10 GND (power), 11 ~{LOAD} (in), 12 ~{ENT} (in), 13 QD (hiz), 14 QC (hiz), 15 QB (hiz), 16 QA (hiz), 17 ~{OE} (in), 18 ~{CCO} (out), 19 ~{RCO} (out), 20 VCC (power)

## SNJ54ALS688FK
designator U?
8-Bit Identity/Magnitude Comparators (P=Q) with Enable, FK0020A, TUBE; Generic Part Number: SN54ALS688; Manufacturer: Texas Instruments; PartNumber: SNJ54ALS688FK; VCC(Min)(V): 4.5; VCC(Max)(V): 5.5; Output Type: TTL; ICC @ Nom Voltage(Max)(mA): 19; Bits(#): 8; Rating: Military; Technology Family: ALS; Output Drive (IOL/IOH)(Max)(mA): 24/-2.6; tpd @ Nom Voltage(Max)(ns): 22; DatasheetVersion: SDAS228A; PackageReference: FK0020A; Input Type: TTL; Operating Temperature Range(C): -55 to 125; Code_JEDEC: MS-004; ComponentLink1Description: Manufacturer URL; ComponentLink1URL: http://www.ti.com/; ComponentLink2Description: Datasheet; ComponentLink2URL: http://www.ti.com/lit/ds/symlink/sn54als688.pdf; ComponentLink3Description: Package Specification; ComponentLink3URL: http://www.ti.com/lit/ml/mlcc006d/mlcc006d.pdf
footprint FK0020A_N (LCC, 20-Leads, Body 8.9x8.9mm, Pitch 1.27mm, IPC Medium Density)
footprint FK0020A_M (LCC, 20-Leads, Body 8.9x8.9mm, Pitch 1.27mm, IPC Low Density)
footprint FK0020A_L (LCC, 20-Leads, Body 8.9x8.9mm, Pitch 1.27mm, IPC High Density)
pins: 1 ~{G} (in), 2 P0 (in), 3 Q0 (in), 4 P1 (in), 5 Q1 (in), 6 P2 (in), 7 Q2 (in), 8 P3 (in), 9 Q3 (in), 10 GND (power), 11 P4 (in), 12 Q4 (in), 13 P5 (in), 14 Q5 (in), 15 P6 (in), 16 Q6 (in), 17 P7 (in), 18 Q7 (in), 19 ~{P=Q} (out), 20 VCC (power)

## SNJ54ALS688J
designator U?
8-Bit Identity/Magnitude Comparators (P=Q) with Enable, J0020A, TUBE; Generic Part Number: SN54ALS688; Manufacturer: Texas Instruments; PartNumber: SNJ54ALS688J; VCC(Min)(V): 4.5; VCC(Max)(V): 5.5; Output Type: TTL; ICC @ Nom Voltage(Max)(mA): 19; Bits(#): 8; Rating: Military; Technology Family: ALS; Output Drive (IOL/IOH)(Max)(mA): 24/-2.6; tpd @ Nom Voltage(Max)(ns): 22; DatasheetVersion: SDAS228A; PackageReference: J0020A; Input Type: TTL; Operating Temperature Range(C): -55 to 125; ComponentLink1Description: Manufacturer URL; ComponentLink1URL: http://www.ti.com/; ComponentLink2Description: Datasheet; ComponentLink2URL: http://www.ti.com/lit/ds/symlink/sn54als688.pdf
footprint J0020A (DIP, 20-Leads, Body 26.9x7.2mm, Pitch 2.54mm)
pins: 1 ~{G} (in), 2 P0 (in), 3 Q0 (in), 4 P1 (in), 5 Q1 (in), 6 P2 (in), 7 Q2 (in), 8 P3 (in), 9 Q3 (in), 10 GND (power), 11 P4 (in), 12 Q4 (in), 13 P5 (in), 14 Q5 (in), 15 P6 (in), 16 Q6 (in), 17 P7 (in), 18 Q7 (in), 19 ~{P=Q} (out), 20 VCC (power)

## SNJ54ALS688W
designator U?
8-Bit Identity/Magnitude Comparators (P=Q) with Enable, W0020A, TUBE; Generic Part Number: SN54ALS688; Manufacturer: Texas Instruments; PartNumber: SNJ54ALS688W; VCC(Min)(V): 4.5; VCC(Max)(V): 5.5; Output Type: TTL; ICC @ Nom Voltage(Max)(mA): 19; Bits(#): 8; Rating: Military; Technology Family: ALS; Output Drive (IOL/IOH)(Max)(mA): 24/-2.6; tpd @ Nom Voltage(Max)(ns): 22; DatasheetVersion: SDAS228A; PackageReference: W0020A; Input Type: TTL; Operating Temperature Range(C): -55 to 125; ComponentLink1Description: Manufacturer URL; ComponentLink1URL: http://www.ti.com/; ComponentLink2Description: Datasheet; ComponentLink2URL: http://www.ti.com/lit/ds/symlink/sn54als688.pdf
footprint W0020A_N (CFP, 20-Leads, Body 13.72x7.62mm, Pitch 1.27mm, IPC Medium Density)
footprint W0020A_M (CFP, 20-Leads, Body 13.72x7.62mm, Pitch 1.27mm, IPC Low Density)
footprint W0020A_L (CFP, 20-Leads, Body 13.72x7.62mm, Pitch 1.27mm, IPC High Density)
pins: 1 ~{G} (in), 2 P0 (in), 3 Q0 (in), 4 P1 (in), 5 Q1 (in), 6 P2 (in), 7 Q2 (in), 8 P3 (in), 9 Q3 (in), 10 GND (power), 11 P4 (in), 12 Q4 (in), 13 P5 (in), 14 Q5 (in), 15 P6 (in), 16 Q6 (in), 17 P7 (in), 18 Q7 (in), 19 ~{P=Q} (out), 20 VCC (power)

## SNJ54ALS857JT
designator U?
Hex 2-To-1 Universal Multiplexers With 3-State Outputs, JT0024A, TUBE; Generic Part Number: SN54ALS857; Manufacturer: Texas Instruments; PartNumber: SNJ54ALS857JT; VCC(Min)(V): 4.5; VCC(Max)(V): 5.5; Rating: Military; Technology Family: ALS; Schmitt Trigger: No; DatasheetVersion: SDAS170A; PackageReference: JT0024A; Operating Temperature Range(C): -55 to 125; Code_JEDEC: MO-058 AA; ComponentLink1Description: Manufacturer URL; ComponentLink1URL: http://www.ti.com/; ComponentLink2Description: Datasheet; ComponentLink2URL: http://www.ti.com/lit/ds/symlink/sn54als857.pdf; ComponentLink3Description: Package Specification; ComponentLink3URL: http://www.ti.com/lit/ml/mcer004a/mcer004a.pdf
footprint JT0024A (DIP, 24-Leads, Body 7.2x32.5mm, Pitch 2.54mm)
pins: 1 S0 (in), 2 1A (in), 3 1B (in), 4 1Y (hiz), 5 2A (in), 6 2B (in), 7 2Y (hiz), 8 3A (in), 9 3B (in), 10 3Y (hiz), 11 OPER = 0 (hiz), 12 GND (power), 13 COMP (in), 14 4Y (hiz), 15 4B (in), 16 4A (in), 17 5Y (hiz), 18 5B (in), 19 5A (in), 20 6Y (hiz), 21 6B (in), 22 6A (in), 23 S1 (in), 24 VCC (power)

## SNJ54AS138FK
designator U?
3-Line To 8-Line Decoders/Demultiplexers, FK0020A, TUBE; Generic Part Number: SN54AS138; Manufacturer: Texas Instruments; PartNumber: SNJ54AS138FK; VCC(Min)(V): 4.5; VCC(Max)(V): 5.5; Rating: Military; Technology Family: AS; Schmitt Trigger: No; DatasheetVersion: SDAS055E; PackageReference: FK0020A; Operating Temperature Range(C): -55 to 125; Code_JEDEC: MS-004; ComponentLink1Description: Manufacturer URL; ComponentLink1URL: http://www.ti.com/; ComponentLink2Description: Datasheet; ComponentLink2URL: http://www.ti.com/lit/ds/symlink/sn54as138.pdf; ComponentLink3Description: Package Specification; ComponentLink3URL: http://www.ti.com/lit/ml/mlcc006d/mlcc006d.pdf
footprint FK0020A_N (LCC, 20-Leads, Body 8.9x8.9mm, Pitch 1.27mm, IPC Medium Density)
footprint FK0020A_M (LCC, 20-Leads, Body 8.9x8.9mm, Pitch 1.27mm, IPC Low Density)
footprint FK0020A_L (LCC, 20-Leads, Body 8.9x8.9mm, Pitch 1.27mm, IPC High Density)
part A pins: 2 A (in), 3 B (in), 4 C (in), 5 ~{G2A} (in), 7 ~{G2B} (in), 8 G1 (in), 9 ~{Y7} (out), 10 GND (power), 12 ~{Y6} (out), 13 ~{Y5} (out), 14 ~{Y4} (out), 15 ~{Y3} (out), 17 ~{Y2} (out), 18 ~{Y1} (out), 19 ~{Y0} (out), 20 VCC (power)
part B pins: 1 NC, 6 NC, 11 NC, 16 NC

## SNJ54AS138J
designator U?
3-Line To 8-Line Decoders/Demultiplexers, J0016A, TUBE; Generic Part Number: SN54AS138; Manufacturer: Texas Instruments; PartNumber: SNJ54AS138J; VCC(Min)(V): 4.5; VCC(Max)(V): 5.5; Rating: Military; Technology Family: AS; Schmitt Trigger: No; DatasheetVersion: SDAS055E; PackageReference: J0016A; Operating Temperature Range(C): -55 to 125; ComponentLink1Description: Manufacturer URL; ComponentLink1URL: http://www.ti.com/; ComponentLink2Description: Datasheet; ComponentLink2URL: http://www.ti.com/lit/ds/symlink/sn54as138.pdf; ComponentLink3Description: Package Specification; ComponentLink3URL: http://www.ti.com/lit/ml/mcer002d/mcer002d.pdf
footprint J0016A (DIP, 16-Leads, Body 21.35x7.2mm, Pitch 2.54mm)
pins: 1 A (in), 2 B (in), 3 C (in), 4 ~{G2A} (in), 5 ~{G2B} (in), 6 G1 (in), 7 ~{Y7} (out), 8 GND (power), 9 ~{Y6} (out), 10 ~{Y5} (out), 11 ~{Y4} (out), 12 ~{Y3} (out), 13 ~{Y2} (out), 14 ~{Y1} (out), 15 ~{Y0} (out), 16 VCC (power)